# Altium footprint library AlmaznyLib.PcbLib: 2 footprints
Each footprint in its own frame and in the unit in brackets; x right, y up, seen from the top. Pads: shape width x height; smd on the part's side, far side on the other; paste and mask are expansions set on the pad; w line width, h text height; cw(c..) or ccw(c..) is an arc to the next point about the centre after c.
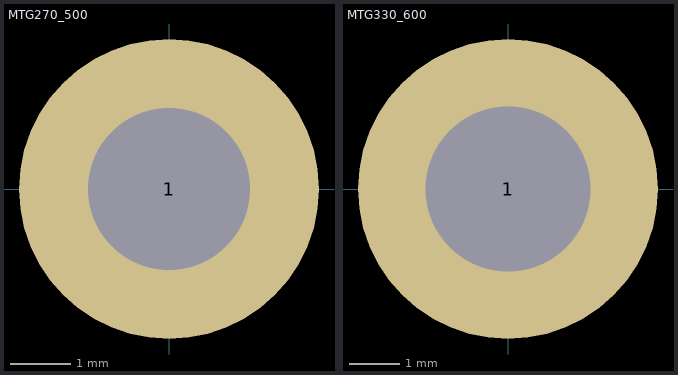
[diagram p0: the footprints below, top view; thin cyan lines are the x and y axes]

## MTG270_500 [mm] "Plated Through Hole: Hole Dia.=2.7mm Pad Dia.=5.0mm"
pads (1):
  round 5 hole 2.7: 1(0,0)

## MTG330_600 [mm] "Plated Through Hole: Hole Dia.=3.3mm Pad Dia.=6.0mm"
pads (1):
  round 6 hole 3.3: 1(0,0)